# Altium footprint library myPcbLib2.PcbLib: 1 footprints
Each footprint in its own frame and in the unit in brackets; x right, y up, seen from the top. Pads: shape width x height; smd on the part's side, far side on the other; paste and mask are expansions set on the pad; w line width, h text height; cw(c..) or ccw(c..) is an arc to the next point about the centre after c.
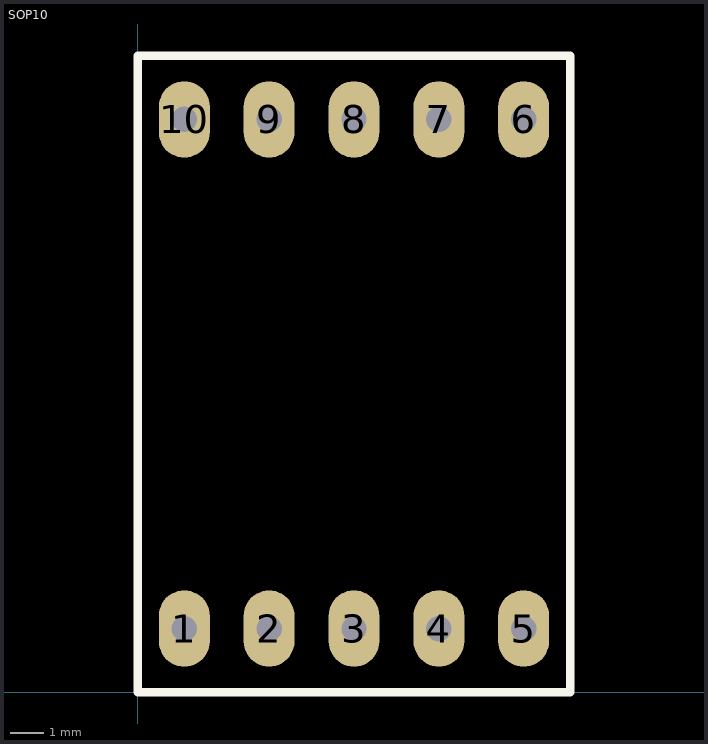
[diagram p0: the footprint, top view; thin cyan lines are the x and y axes]

## SOP10 [mil]
pads (10):
  oval 60x90 hole 30: 1(55,75) 2(155,75) 3(255,75) 4(355,75) 5(455,75) 6(455,675) 7(355,675) 8(255,675) 9(155,675) 10(55,675)
Top Overlay:
  lines w10: 0,0 0,750 510,750 510,0 0,0